# Altium schematic symbol library DAB_EE365.SchLib: 28 symbols
Pins are listed as number, name and electrical type; pins without a type are passive.

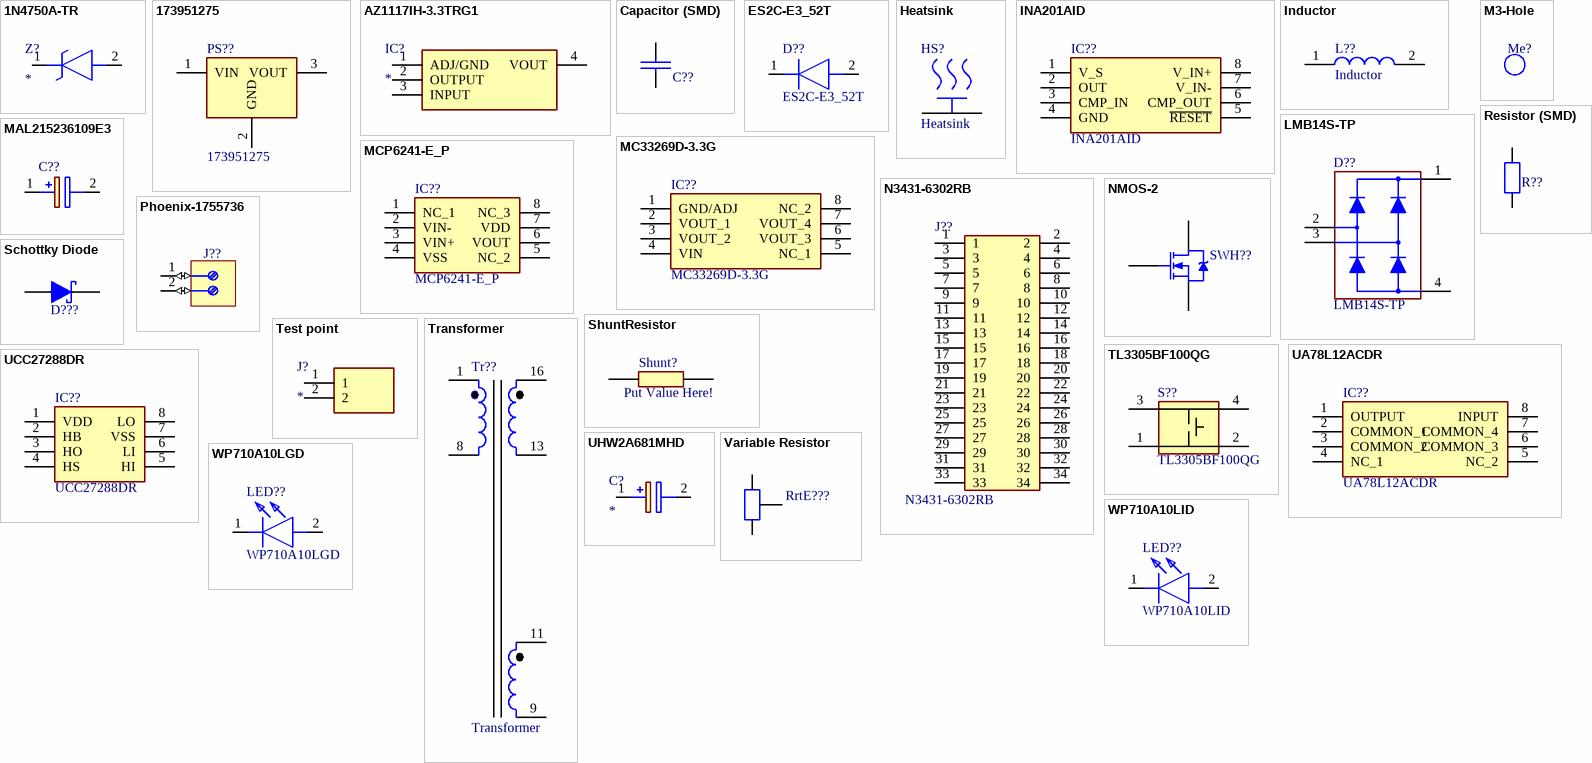
[diagram p0: symbols 1N4750A-TR to WP710A10LID]

## 1N4750A-TR
designator Z?
Zener Diode; Manufacturer_Name: Vishay; Manufacturer_Part_Number: 1N4750A-TR; Datasheet Link: http://www.vishay.com/docs/85816/1n4728a.pdf; Mouser Part Number: 78-1N4750A; Mouser Price/Stock: https://www.mouser.co.uk/ProductDetail/Vishay-Semiconductors/1N4750A-TR?qs=TNTIDjy6APqxkqc3HzV0eA%3D%3D; Arrow Part Number: 1N4750A-TR; Arrow Price/Stock: https://www.arrow.com/en/products/1n4750a-tr/vishay?region=nac
footprint DIOAD1310W86L370D235
pins: 1 K, 2 A

## 173951275
designator PS??
Power Supply; Manufacturer_Name: Wurth Elektronik; Datasheet Link: https://www.we-online.com/components/products/datasheet/173951275.pdf; Height: 18mm; Manufacturer_Part_Number: 173951275
footprint 173951275
pins: 1 VIN, 2 GND, 3 VOUT

## AZ1117IH-3.3TRG1
designator IC?
Integrated Circuit; Manufacturer_Name: Diodes Incorporated; Manufacturer_Part_Number: AZ1117IH-3.3TRG1; Datasheet Link: https://www.diodes.com//assets/Datasheets/AZ1117I.pdf; Height: 1.8mm; Mouser Part Number: 621-AZ1117IH-3.3TRG1; Mouser Price/Stock: https://www.mouser.co.uk/ProductDetail/Diodes-Incorporated/AZ1117IH-3.3TRG1?qs=cpo3%2FpBou2jnS4SxLgAVoA%3D%3D; Arrow Part Number: AZ1117IH-3.3TRG1; Arrow Price/Stock: https://www.arrow.com/en/products/az1117ih-3.3trg1/diodes-incorporated?utm_currency=USD&region=europe
footprint SOT230P700X180-4N
pins: 1 ADJ/GND, 2 OUTPUT, 3 INPUT, 4 VOUT

## Capacitor (SMD)
designator C??  (value not drawn)
Capacitor (non polarized)
footprint SM/1206
footprint SM/1210
pins: 1, 2

## ES2C-E3_52T
designator D??
Diode; Manufacturer_Name: Vishay; Manufacturer_Part_Number: ES2C-E3/52T; Datasheet Link: https://componentsearchengine.com/Datasheets/1/ES2C-E3_52T.pdf; Height: 2.44mm; Mouser Part Number: 625-ES2C-E3; Mouser Price/Stock: https://www.mouser.co.uk/ProductDetail/Vishay-General-Semiconductor/ES2C-E3-52T?qs=rfh7uIuiIO2rTZqwSd%2FX%2FQ%3D%3D; Arrow Part Number: ES2C-E3/52T; Arrow Price/Stock: https://www.arrow.com/en/products/es2c-e352t/vishay?region=nac
footprint DIOM5436X244N
pins: 1 K, 2 A

## Heatsink
designator HS?
HEATSINK TO-218,TO-220,TO-247
footprint Heatsink E2A-T220
footprint Heatsink EA-T220 (Footprint not found)
footprint Heatsink FA-T220 (Footprint not found)
footprint HEATSINK 265118ABHE22 (Footprint not found)
pins: 1 MNT 1, 2

## INA201AID
designator IC??
Integrated Circuit; Manufacturer_Name: Texas Instruments; Datasheet Link: http://www.ti.com/lit/gpn/INA201; Height: 1.75mm; Manufacturer_Part_Number: INA201AID; Mouser Part Number: 595-INA201AID; Mouser Price/Stock: https://www.mouser.co.uk/ProductDetail/Texas-Instruments/INA201AID?qs=wkx8pu8tL7JUWgtgkwU%252B9A%3D%3D; Arrow Part Number: INA201AID; Arrow Price/Stock: https://www.arrow.com/en/products/ina201aid/texas-instruments?utm_currency=USD&region=nac
footprint SOIC127P600X175-8N
pins: 1 V_S, 2 OUT, 3 CMP_IN, 4 GND, 5 ~{RESET}, 6 CMP_OUT, 7 V_IN-, 8 V_IN+

## Inductor
designator L??
Manufacturer_Name: TDK; Manufacturer_Part_Number: MLZ2012N100LT000; Datasheet Link: https://product.tdk.com/system/files/dam/doc/product/inductor/inductor/smd/catalog/inductor_commercial_decoupling_mlz2012_en.pdf; Height: 1.05mm; Mouser Part Number: 810-MLZ2012N100LT000; Mouser Price/Stock: https://www.mouser.co.uk/ProductDetail/TDK/MLZ2012N100LT000?qs=%2FPzWLGNeQ%252BhBF9df2MjAZQ%3D%3D; Arrow Part Number: MLZ2012N100LT000; Arrow Price/Stock: https://www.arrow.com/en/products/mlz2012n100lt000/tdk?region=nac; ComponentLink1Description: Mouser; ComponentLink1URL: https://www.mouser.ch/ProductDetail/TDK/MLZ2012N100LT000?qs=%2FPzWLGNeQ%252BhBF9df2MjAZQ%3D%3D
pins: 1, 2

## LMB14S-TP
designator D??
full-bridge rectifier; Manufacturer_Name: MCC; Datasheet Link: https://www.mccsemi.com/pdf/Products/LMB12S-LMB110S(LMBS-1).pdf; Height: 1.71mm; Manufacturer_Part_Number: LMB14S-TP; Mouser Part Number: 833-LMB14S-TP; Mouser Price/Stock: https://www.mouser.co.uk/ProductDetail/Micro-Commercial-Components-MCC/LMB14S-TP?qs=P1JMDcb91o681gFxLNJ1UQ%3D%3D; Arrow Part Number: LMB14S-TP; Arrow Price/Stock: https://www.arrow.com/en/products/lmb14s-tp/micro-commercial-components
footprint LMB14STP
pins: 1 A, 2 AC_1, 3 AC_2, 4 K

## M3-Hole
designator Me?  (value not drawn)
M3 Mounting Holes.
footprint M3 (M3 - Hole)

## MAL215236109E3
designator C??
Capacitor Polarised; Manufacturer_Name: Vishay; Manufacturer_Part_Number: MAL215236109E3; Datasheet Link: https://www.mouser.co.uk/datasheet/2/427/152rmh-2888034.pdf; Height: 22mm; Mouser Part Number: 594-MAL215236109E3; Mouser Price/Stock: https://www.mouser.co.uk/ProductDetail/Vishay-BC-Components/MAL215236109E3?qs=qmStTZH4TznIDP9mbhT0JA%3D%3D; Arrow Part Number: MAL215236109E3; Arrow Price/Stock: https://www.arrow.com/en/products/mal215236109e3/vishay?utm_currency=USD&region=europe
footprint MAL215236109E3
pins: 1 +, 2 -

## MC33269D-3.3G
designator IC??
Integrated Circuit; Manufacturer_Name: onsemi; Datasheet Link: https://www.onsemi.com/pub/Collateral/MC33269-D.PDF; Height: 1.75mm; Manufacturer_Part_Number: MC33269D-3.3G; Mouser Part Number: 863-MC33269D-3.3G; Mouser Price/Stock: https://www.mouser.co.uk/ProductDetail/onsemi/MC33269D-3.3G?qs=dFKnUM%2FquJZ%252BBcrN2hd5Yg%3D%3D; Arrow Part Number: MC33269D-3.3G; Arrow Price/Stock: https://www.arrow.com/en/products/mc33269d-3.3g/on-semiconductor?utm_currency=USD&region=europe
footprint SOIC127P600X175-8N
pins: 1 GND/ADJ, 2 VOUT_1, 3 VOUT_2, 4 VIN, 5 NC_1, 6 VOUT_3, 7 VOUT_4, 8 NC_2

## MCP6241-E_P
designator IC??
Integrated Circuit - Op Amp; Manufacturer_Name: Microchip; Manufacturer_Part_Number: MCP6241-E/P; Datasheet Link: http://ww1.microchip.com/downloads/en/DeviceDoc/21882d.pdf; Height: 5.334mm; Mouser Part Number: 579-MCP6241-E/P; Mouser Price/Stock: https://www.mouser.co.uk/ProductDetail/Microchip-Technology/MCP6241-E-P?qs=g6BBfX6YTkkJAE8LlpYY9A%3D%3D; Arrow Part Number: MCP6241-E/P; Arrow Price/Stock: https://www.arrow.com/en/products/mcp6241-ep/microchip-technology?utm_currency=USD&region=nac
footprint DIP781W56P254L950H533Q8N
pins: 1 NC_1, 2 VIN-, 3 VIN+, 4 VSS, 5 NC_2, 6 VOUT, 7 VDD, 8 NC_3

## N3431-6302RB
designator J??
Connector; Manufacturer_Name: Hirose; Manufacturer_Part_Number: HIF3FC-34PA-2.54DS(71); Datasheet Link: http://uk.rs-online.com/web/p/products/8961111; Height: 8.5mm; Mouser Part Number: 798-HIF3FC34PA254DS1; Mouser Price/Stock: https://www.mouser.co.uk/ProductDetail/Hirose-Connector/HIF3FC-34PA-2.54DS71?qs=eDUdFcBPps12jUkdM6VM2w%3D%3D
footprint 3M_N3431-6302RB
pins: 1, 2, 3, 4, 5, 6, 7, 8, 9, 10, 11, 12, 13, 14, 15, 16, 17, 18, 19, 20, 21, 22, 23, 24, 25, 26, 27, 28, 29, 30, 31, 32, 33, 34

## NMOS-2
designator SWH??, comment MOSFET  (value not drawn)
N-Channel Power MOSFET
simulation model IRF1010 (Spice Subcircuit)
footprint TO-220AB
pins: 1 G, 2 D, 3 S

## Phoenix-1755736
designator J??
Connector 2 pos
footprint PHOENIX  1755736
pins: 1 (io), 2 (io)

## Resistor (SMD)
designator R??  (value not drawn)
Resistor (Surface Mounted)
footprint SM/1206
footprint SM/1210
pins: 1, 2

## Schottky Diode
designator D???  (value not drawn)
footprint DIOM5436X244N
pins: 1 K, 2 A

## ShuntResistor
designator Shunt?, comment Put Value Here!
Shunt Resistor; Manufacturer_Name: Stackpole Electronics; Manufacturer_Part_Number: CSNL2512FT5L00; Datasheet Link: https://cs.seielect.com/catalog/SEI-CSNL.pdf; Height: 0.55mm; Arrow Part Number: CSNL2512FT5L00; Arrow Price/Stock: https://www.arrow.com/en/products/csnl2512ft5l00/stackpole-electronics
footprint CSNL2512FT5L00
pins: 1, 2

## Test point
designator J?
test point; Manufacturer_Name: SAMTEC; Manufacturer_Part_Number: TSW-202-07-T-S; Datasheet Link: http://suddendocs.samtec.com/catalog_english/tsw_th.pdf; Height: 8.38mm; Mouser Part Number: 200-TSW20207TS; Mouser Price/Stock: https://www.mouser.co.uk/ProductDetail/Samtec/TSW-202-07-T-S?qs=rU5fayqh%252BE1T8HlkVOHZPg%3D%3D; Arrow Part Number: TSW-202-07-T-S; Arrow Price/Stock: https://www.arrow.com/en/products/tsw-202-07-t-s/samtec?utm_currency=USD&region=europe
footprint HDRV2W64P0X508_1X2_1016X254X838P
pins: 1, 2

## TL3305BF100QG
designator S??
Push Button; Manufacturer_Name: E-Switch; Datasheet Link: https://configured-product-images.s3.amazonaws.com/2D/specs/TL3305BF100QG.pdf; Manufacturer_Part_Number: TL3305BF100QG; Mouser Part Number: 612-TL3305BF100QG; Mouser Price/Stock: https://www.mouser.co.uk/ProductDetail/E-Switch/TL3305BF100QG?qs=IKkN%2F947nfDIPwqPQja%252BvQ%3D%3D
footprint TL3305BF160QG
pins: 1, 2, 3, 4

## Transformer
designator Tr??
Manufacturer_Name: TDK; Manufacturer_Part_Number: MLZ2012N100LT000; Datasheet Link: https://product.tdk.com/system/files/dam/doc/product/inductor/inductor/smd/catalog/inductor_commercial_decoupling_mlz2012_en.pdf; Height: 1.05mm; Mouser Part Number: 810-MLZ2012N100LT000; Mouser Price/Stock: https://www.mouser.co.uk/ProductDetail/TDK/MLZ2012N100LT000?qs=%2FPzWLGNeQ%252BhBF9df2MjAZQ%3D%3D; Arrow Part Number: MLZ2012N100LT000; Arrow Price/Stock: https://www.arrow.com/en/products/mlz2012n100lt000/tdk?region=nac; ComponentLink1Description: Mouser; ComponentLink1URL: https://www.mouser.ch/ProductDetail/TDK/MLZ2012N100LT000?qs=%2FPzWLGNeQ%252BhBF9df2MjAZQ%3D%3D
footprint ETD39
pins: 1, 8, 9, 11, 13, 16

## UA78L12ACDR
designator IC??
Integrated Circuit; Manufacturer_Name: Texas Instruments; Datasheet Link: http://www.ti.com/lit/gpn/ua78l; Height: 1.75mm; Manufacturer_Part_Number: UA78L12ACDR; Mouser Part Number: 595-UA78L12ACDR; Mouser Price/Stock: https://www.mouser.co.uk/ProductDetail/Texas-Instruments/UA78L12ACDR?qs=0O%2FZFlpUpJW5pw3BJ01ZLg%3D%3D; Arrow Part Number: UA78L12ACDR; Arrow Price/Stock: https://www.arrow.com/en/products/ua78l12acdr/texas-instruments?region=nac
footprint SOIC127P600X175-8N
pins: 1 OUTPUT, 2 COMMON_1, 3 COMMON_2, 4 NC_1, 5 NC_2, 6 COMMON_3, 7 COMMON_4, 8 INPUT

## UCC27288DR
designator IC??
Integrated Circuit; Manufacturer_Name: Texas Instruments; Datasheet Link: https://www.arrow.com/en/products/ucc27288dr/texas-instruments; Height: 1.75mm; Manufacturer_Part_Number: UCC27288DR; Mouser Part Number: 595-UCC27288DR; Mouser Price/Stock: https://www.mouser.co.uk/ProductDetail/Texas-Instruments/UCC27288DR?qs=zW32dvEIR3s81MTqTT5v9Q%3D%3D; Arrow Part Number: UCC27288DR; Arrow Price/Stock: https://www.arrow.com/en/products/ucc27288dr/texas-instruments?utm_currency=USD&region=europe
footprint SOIC127P600X175-8N
pins: 1 VDD, 2 HB, 3 HO, 4 HS, 5 HI, 6 LI, 7 VSS, 8 LO

## UHW2A681MHD
designator C?
Capacitor; Manufacturer_Name: Nichicon; Manufacturer_Part_Number: UHW2A681MHD; Datasheet Link: https://www.digikey.ph/en/products/detail/nichicon/UHW2A681MHD/5818028?msockid=39f1ec84d77b6f4428b7f904d6676eed; Height: 37.5mm; Mouser Part Number: 647-UHW2A681MHD; Mouser Price/Stock: https://www.mouser.co.uk/ProductDetail/Nichicon/UHW2A681MHD/?qs=KdTYp8tcPgmYzat6Tz8y0A%3D%3D
footprint CAPPRD750W80D1625H3750
pins: 1 +, 2 -

## Variable Resistor
designator RrtE???  (value not drawn)
footprint TRIMMER CT-6EP
pins: 1, 2, 3

## WP710A10LGD
designator LED??
LED Green; Manufacturer_Name: Kingbright; Datasheet Link: https://www.kingbrightusa.com/images/catalog/SPEC/WP710A10LGD.pdf; Height: 5.9mm; Manufacturer_Part_Number: WP710A10LGD; Mouser Part Number: 604-WP710A10LGD; Mouser Price/Stock: https://www.mouser.com/Search/Refine.aspx?Keyword=604-WP710A10LGD; Arrow Part Number: WP710A10LGD; Arrow Price/Stock: https://www.arrow.com/en/products/wp710a10lgd/kingbright?region=nac
footprint WP710A10LGD
pins: 1 K, 2 A

## WP710A10LID
designator LED??
LED Red; Manufacturer_Name: Kingbright; Datasheet Link: https://www.kingbrightusa.com/images/catalog/SPEC/WP710A10LID.pdf; Height: 5.9mm; Manufacturer_Part_Number: WP710A10LID; Mouser Part Number: 604-WP710A10LID; Mouser Price/Stock: https://www.mouser.co.uk/ProductDetail/Kingbright/WP710A10LID?qs=jBF9H7RTBaSn1LemoiEgcA%3D%3D; Arrow Part Number: WP710A10LID; Arrow Price/Stock: https://www.arrow.com/en/products/wp710a10lid/kingbright?utm_currency=USD&region=nac
footprint WP710A10LID
pins: 1 K, 2 A